# Altium footprint library liuxiaolong.PcbLib: 61 footprints (part 1 of 4)
Each footprint in its own frame and in the unit in brackets; x right, y up, seen from the top. Pads: shape width x height; smd on the part's side, far side on the other; paste and mask are expansions set on the pad; w line width, h text height; cw(c..) or ccw(c..) is an arc to the next point about the centre after c.
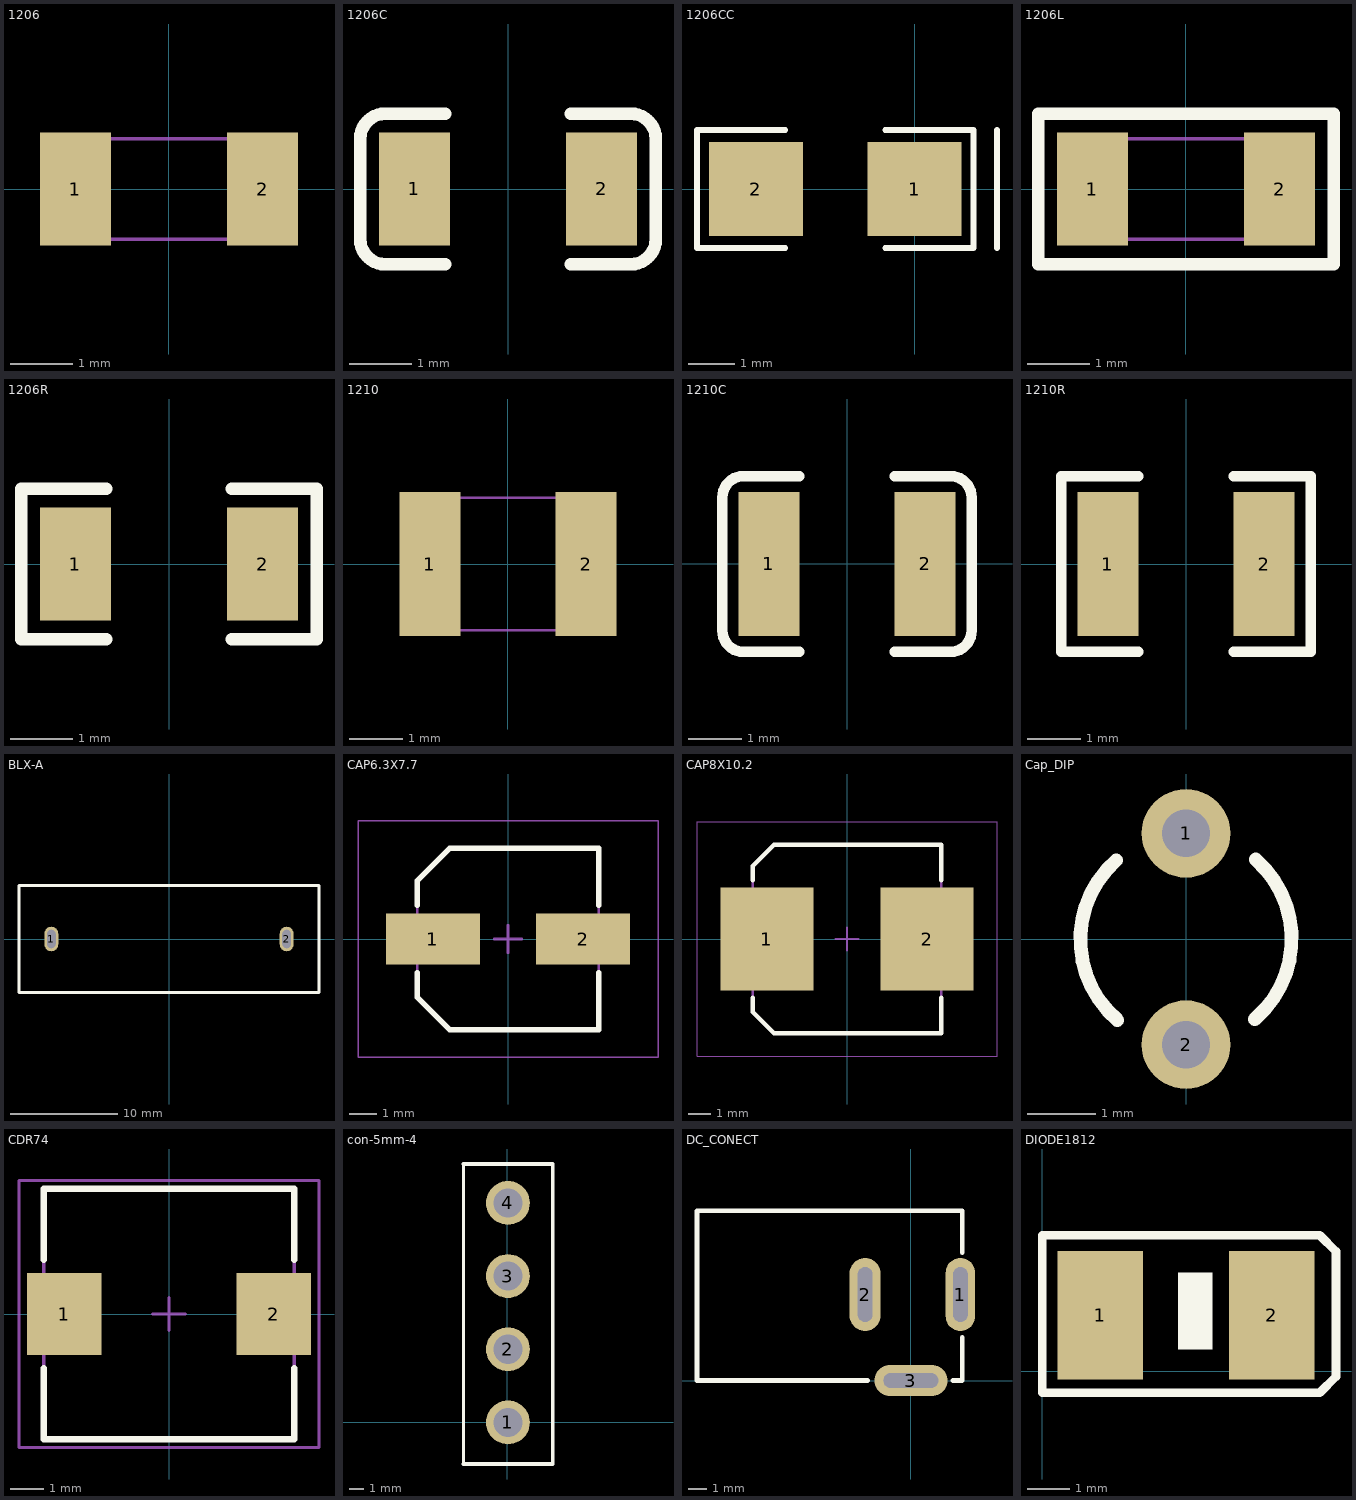
[diagram p0: the footprints below, top view; thin cyan lines are the x and y axes]

## 1206 [mm]
height 20
pads (2):
  rect 1.13x1.8 smd: 1(-1.49,0) 2(1.49,0)
Mechanical 13:
  lines w0.05: -1.6,-0.8 1.6,-0.8 1.6,0.8 -1.6,0.8 -1.6,-0.8

## 1206C [mm]
height 20
pads (2):
  rect 1.13x1.8 smd: 1(-1.49,0) 2(1.49,0)
Top Overlay:
  lines w0.2: -1,-1.2 -1.955,-1.2 cw(c-1.955,-0.8) -2.355,-0.8 -2.355,0.8 cw(c-1.955,0.8) -1.955,1.2 -1,1.2 ; 1,-1.2 1.955,-1.2 ccw(c1.955,-0.8) 2.355,-0.8 2.355,0.8 ccw(c1.955,0.8) 1.955,1.2 1,1.2
3D body: height 1, standoff 0, extent -1.602,-0.813 1.598,0.787

## 1206CC [mil]
pads (2):
  rect 80x80 smd: 1(0,0) 2(-135,0)
Top Overlay:
  lines w5: -110,-50 -185,-50 -185,50 -110,50 ; -25,-50 50,-50 ; -25,50 50,50 ; 70,-50 70,50 ; 50,-50 50,50 ; 50,-50 50,50

## 1206L [mm]
height 20
pads (2):
  rect 1.13x1.8 smd: 1(-1.49,0) 2(1.49,0)
Top Overlay:
  lines w0.2: -2.355,-1.2 -2.355,1.2 2.355,1.2 2.355,-1.2 -2.355,-1.2
Mechanical 13:
  lines w0.05: -1.6,-0.8 -1.6,0.8 1.6,0.8 1.6,-0.8 -1.6,-0.8

## 1206R [mm]
height 20
pads (2):
  rect 1.13x1.8 smd: 1(-1.49,0) 2(1.49,0)
Top Overlay:
  lines w0.2: -1,-1.2 -2.355,-1.2 -2.355,1.2 -1,1.2 ; 1,-1.2 2.355,-1.2 2.355,1.2 1,1.2
3D body: height 0.85, standoff 0, extent -1.7,-0.864 1.65,0.866

## 1210 [mm]
height 20
pads (2):
  rect 1.16x2.72 smd: 1(-1.475,0) 2(1.475,0)
Mechanical 13:
  lines w0.05: -1.6,-1.25 1.6,-1.25 1.6,1.25 -1.6,1.25 -1.6,-1.25

## 1210C [mm]
height 20
pads (2):
  rect 1.16x2.72 smd: 1(-1.475,0) 2(1.475,0)
Top Overlay:
  lines w0.2: -0.9,-1.66 -1.955,-1.66 cw(c-1.955,-1.26) -2.355,-1.26 -2.355,1.26 cw(c-1.955,1.26) -1.955,1.66 -0.9,1.66 ; 0.9,-1.66 1.955,-1.66 ccw(c1.955,-1.26) 2.355,-1.26 2.355,1.26 ccw(c1.955,1.26) 1.955,1.66 0.9,1.66
3D body: height 1.3, standoff 0, extent -1.6,-1.25 1.6,1.25

## 1210R [mm]
height 20
pads (2):
  rect 1.16x2.72 smd: 1(-1.475,0) 2(1.475,0)
Top Overlay:
  lines w0.2: -0.9,-1.66 -2.355,-1.66 -2.355,1.66 -0.9,1.66 ; 0.9,-1.66 2.355,-1.66 2.355,1.66 0.9,1.66
3D body: height 0.6, standoff 0, extent -1.6,-1.25 1.6,1.25

## BLX-A [mm] "保险丝夹"
pads (2):
  oval 1.3x2.3 hole 0.8 slot 1.7 at 90 deg: 1(-11,0) 2(11,0)
Top Overlay:
  lines w0.254: 13.97,-5.004 -14.021,-5.004 -14.021,5.004 14.021,5.004 14.021,-5.004

## CAP6.3X7.7 [mm] "Aluminum Electrolytic Capacitor, Body 6.60x6.60x7.70mm, IPC Low Density"
height 7.7
pads (2):
  rect 3.4x1.85 smd: 1(-2.725,0) 2(2.725,0)
Top Overlay:
  lines w0.2: -3.3,-1.225 -3.3,-2.113 -2.113,-3.3 3.3,-3.3 3.3,-1.225 ; -3.3,1.225 -3.3,2.113 -2.113,3.3 3.3,3.3 3.3,1.225
Mechanical 13:
  lines w0.1: -3.3,-2.113 -3.3,2.113 -2.113,3.3 3.3,3.3 3.3,-3.3 -2.113,-3.3 -3.3,-2.113
Mechanical 15:
  lines w0.05: -5.45,-4.3 5.45,-4.3 5.45,4.3 -5.45,4.3 -5.45,-4.3
  lines w0.1: -0.5,0 0.5,0 ; 0,-0.5 0,0.5
3D body: height 7.7, standoff 0, extent -3.15,-3.15 3.125,3.138
3D body: height 2.57, standoff 0, extent -3.3,-3.3 3.3,3.3

## CAP8X10.2 [mm] "Aluminum Electrolytic Capacitor, Body 8.30x8.30x10.20mm, IPC Low Density"
height 10.2
pads (2):
  rect 4.1x4.55 smd: 1(-3.525,0) 2(3.525,0)
Top Overlay:
  lines w0.2: -4.15,-2.575 -4.15,-3.212 -3.212,-4.15 4.15,-4.15 4.15,-2.575 ; -4.15,2.575 -4.15,3.212 -3.212,4.15 4.15,4.15 4.15,2.575
Mechanical 13:
  lines w0.1: -4.15,-3.212 -3.212,-4.15 4.15,-4.15 4.15,4.15 -3.212,4.15 -4.15,3.212 -4.15,-3.212
Mechanical 15:
  lines w0.05: -6.6,-5.15 -6.6,5.15 6.6,5.15 6.6,-5.15 -6.6,-5.15
  lines w0.1: -0.5,0 0.5,0 ; 0,-0.5 0,0.5
3D body: height 3.4, standoff 0, extent -4.15,-4.15 4.15,4.15
3D body: height 10.2, standoff 0, extent -4,-4 3.968,3.984

## Cap_DIP [mm] "Crystal, Thru-Hole; 2 Leads; Body 3.1 x 8.2 mm (Dia.xH)"
height 8.2
pads (2):
  round 1.3 hole 0.7: 1(0,1.55) 2(0,-1.55)
Top Overlay:
  lines w0.2: -1.022,1.155 ccw(c0,-0.01) -1.006,-1.189 ; 1.006,-1.179 ccw(c0,0) 1.022,1.165

## CDR74 [mm]
height 8
pads (2):
  rect 2.25x2.5 smd: 1(-3.175,0) 2(3.175,0)
Top Overlay:
  lines w0.2: -3.8,-1.65 -3.8,-3.8 3.8,-3.8 3.8,-1.65 ; -3.8,1.65 -3.8,3.8 3.8,3.8 3.8,1.65
Mechanical 13:
  lines w0.1: -3.8,-3.8 -3.8,3.8 3.8,3.8 3.8,-3.8 -3.8,-3.8
Mechanical 15:
  lines w0.1: -0.5,0 0.5,0 ; 0,-0.5 0,0.5 ; -4.55,-4.05 -4.55,4.05 4.55,4.05 4.55,-4.05 -4.55,-4.05
3D body: height 3.7, standoff 0, extent -3.8,-3.8 3.8,3.8

## con-5mm-4 [mm]
pads (4):
  round 3 hole 2: 1(0.047,-0.002) 2(0.047,4.998) 3(0.047,10.005) 4(0.047,15.001)
Top Overlay:
  lines w0.203: -3.009,-2.789 -3.009,8.34 ; -2.993,4.149 -2.993,17.521
  lines w0.254: -3.009,-2.843 3.106,-2.843 ; -2.993,17.662 3.106,17.662 ; 3.106,-2.825 3.106,8.456 ; 3.106,4.301 3.106,17.622

## DC_CONECT [mm]
pads (3):
  oval 1.6x4 hole 0.8 slot 3 at 90 deg: 1(2.7,4.7)
  oval 1.7x4 hole 0.8 slot 3 at 90 deg: 2(-2.5,4.7)
  oval 4x1.7 hole 0.8 slot 3 at 0 deg: 3(0,0)
Top Overlay:
  lines w0.254: -2.35,0 -8.255,0 -11.43,0 -11.684,0 -11.684,9.271 -8.255,9.271 2.54,9.271 2.794,9.271 2.794,6.985 ; 2.275,0 2.794,0 2.794,2.375

## DIODE1812 [mm]
pads (2):
  rect 2x3 smd: 1(1.355,1.3) 2(5.355,1.3)
Top Overlay:
  rectangle: 3.175,0.508 3.975,2.308
  lines w0.2: 6.477,-0.508 0,-0.508 0,3.175 6.477,3.175
  lines w0.203: 6.477,-0.508 6.858,-0.127 6.858,2.794 6.477,3.175